# Altium schematic symbol library kmilo17pet-LT_PMIC_LT.SchLib: 2252 symbols (part 79 of 124)
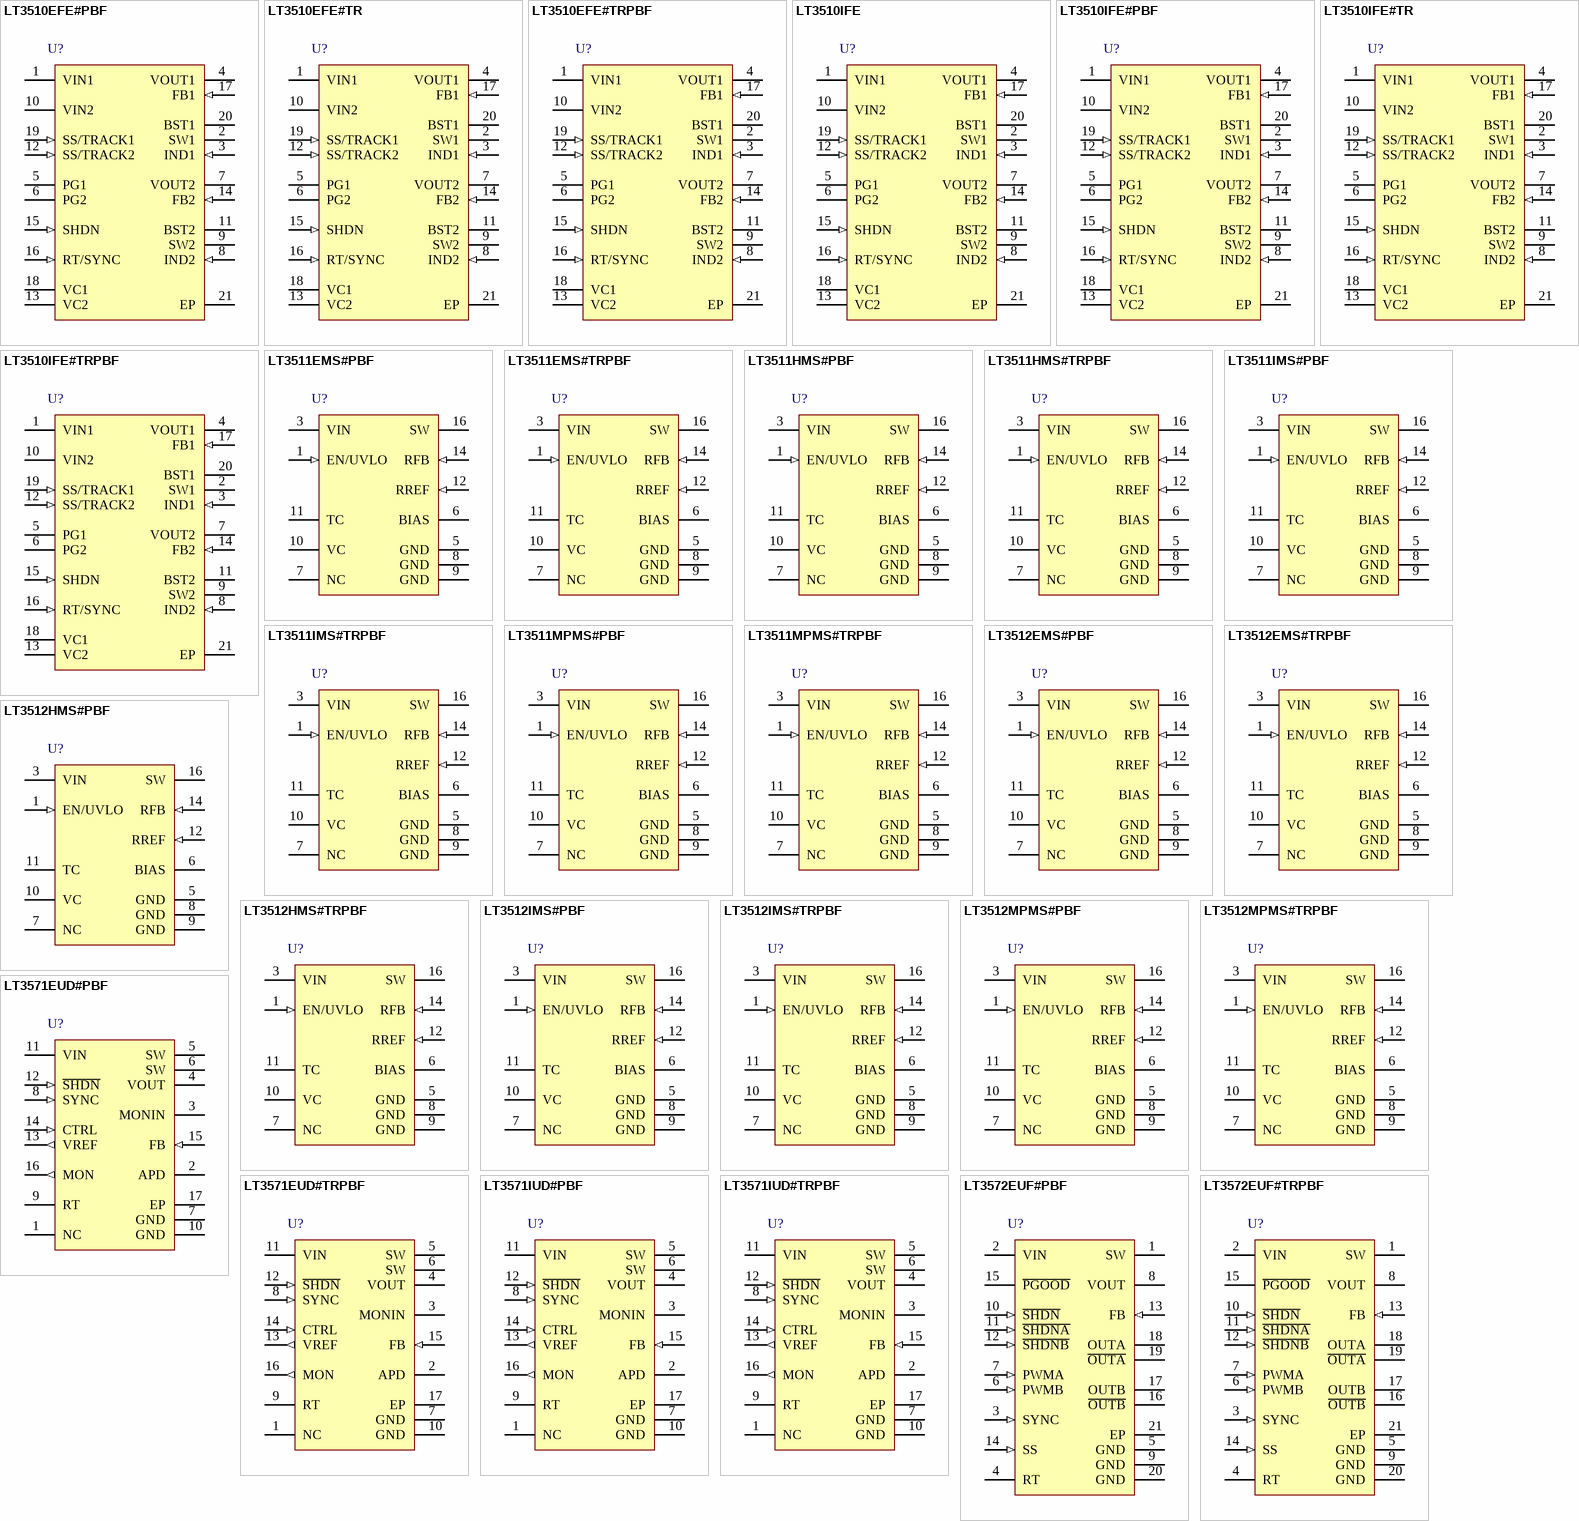
[diagram p149: symbols LT3510EFE#PBF to LT3572EUF#TRPBF]

## LT3511EMS#TRPBF
designator U?
Monolithic High Voltage Isolated Flyback Converter, 16-pin SOP (MS-16-4PR), -40 to 125 degC, Pb-Free, Tape and Reel; Manufacturer: Linear Technology; PartNumber: LT3511EMS#TRPBF; Number of Outputs: 1; PackageReference: MS-16; PackageDescription: 12-Pin Plastic MSOP, Body 4.039 x 3 mm, Pitch 0.5 mm; Supplier 1: Digi-Key; Supplier Part Number 1: LT3511EMS#TRPBF-ND; RoHS: TRUE
footprint LT-MS-16-4PR_N (SOP, 12-Leads, Body 4.1x3.1mm, Pitch 0.5mm, IPC Medium Density)
footprint LT-MS-16-4PR_L (SOP, 12-Leads, Body 4.1x3.1mm, Pitch 0.5mm, IPC High Density)
footprint LT-MS-16-4PR_M (SOP, 12-Leads, Body 4.1x3.1mm, Pitch 0.5mm, IPC Low Density)
pins: 1 EN/UVLO (in) "Enable/Undervoltage Lockout. The EN/ UVLO pin is used to start up the LT3512/LT3511. Pull the pin to 0V to shut down the LT3512. This pin has an accurate 1.21V threshold and can be used to program an undervoltage lockout (See Datasheet)", 3 VIN (power) "Input Supply Pin. This pin supplies current to the internal start-up circuitry, and serves as a reference voltage for the DCM comparator and feedback circuitry. Must be locally bypassed with a capacitor.", 5 GND (power) "Ground Pins. All three pins should be tied directly to the local ground plane.", 6 BIAS (power) "Bias Voltage. This pin supplies current to the switch driver and internal circuitry of the LT3512/LT3511. This pin may also be connected to VIN if a third winding is not used and if VIN < 20V. The part can operate down to 4.(See Datasheet)", 7 NC, 8 GND (power) "Ground Pins. All three pins should be tied directly to the local ground plane.", 9 GND (power) "Ground Pins. All three pins should be tied directly to the local ground plane.", 10 VC "Compensation Pin for Internal Error Amplifier. Connect a series RC from this pin to ground to compensate the switching regulator. An additional 100pF capacitor from this pin to ground helps eliminate noise.", 11 TC "Output Voltage Temperature Compensation. Connect a resistor to ground to produce a current proportional to absolute temperature to be sourced into the RREF node. ITC = 0.55V/RTC.", 12 RREF (in) "Input Pin for External Ground-Referred Reference Resistor. The resistor at this pin should be 10k. For nonisolated applications, a traditional resistor voltage divider from VOUT may be connected to this pin.", 14 RFB (in) "Input Pin for External Feedback Resistor. This pin is connected to the transformer primary (VSW). The ratio of this resistor to the RREF resistor, times the internal bandgap reference, determines the output voltage (plus the (See Datasheet)", 16 SW (power) "Switch Pin. Collector of the internal power switch. Minimize trace area at this pin to minimize EMI and voltage spikes."

## LT3511HMS#PBF
designator U?
Monolithic High Voltage Isolated Flyback Converter, 16-pin SOP (MS-16-4PR), -40 to 150 degC, Pb-Free; Manufacturer: Linear Technology; PartNumber: LT3511HMS#PBF; Number of Outputs: 1; PackageReference: MS-16; PackageDescription: 12-Pin Plastic MSOP, Body 4.039 x 3 mm, Pitch 0.5 mm; Supplier 1: Digi-Key; Supplier Part Number 1: LT3511HMS#PBF-ND; RoHS: TRUE
footprint LT-MS-16-4PR_N (SOP, 12-Leads, Body 4.1x3.1mm, Pitch 0.5mm, IPC Medium Density)
footprint LT-MS-16-4PR_L (SOP, 12-Leads, Body 4.1x3.1mm, Pitch 0.5mm, IPC High Density)
footprint LT-MS-16-4PR_M (SOP, 12-Leads, Body 4.1x3.1mm, Pitch 0.5mm, IPC Low Density)
pins: 1 EN/UVLO (in) "Enable/Undervoltage Lockout. The EN/ UVLO pin is used to start up the LT3512/LT3511. Pull the pin to 0V to shut down the LT3512. This pin has an accurate 1.21V threshold and can be used to program an undervoltage lockout (See Datasheet)", 3 VIN (power) "Input Supply Pin. This pin supplies current to the internal start-up circuitry, and serves as a reference voltage for the DCM comparator and feedback circuitry. Must be locally bypassed with a capacitor.", 5 GND (power) "Ground Pins. All three pins should be tied directly to the local ground plane.", 6 BIAS (power) "Bias Voltage. This pin supplies current to the switch driver and internal circuitry of the LT3512/LT3511. This pin may also be connected to VIN if a third winding is not used and if VIN < 20V. The part can operate down to 4.(See Datasheet)", 7 NC, 8 GND (power) "Ground Pins. All three pins should be tied directly to the local ground plane.", 9 GND (power) "Ground Pins. All three pins should be tied directly to the local ground plane.", 10 VC "Compensation Pin for Internal Error Amplifier. Connect a series RC from this pin to ground to compensate the switching regulator. An additional 100pF capacitor from this pin to ground helps eliminate noise.", 11 TC "Output Voltage Temperature Compensation. Connect a resistor to ground to produce a current proportional to absolute temperature to be sourced into the RREF node. ITC = 0.55V/RTC.", 12 RREF (in) "Input Pin for External Ground-Referred Reference Resistor. The resistor at this pin should be 10k. For nonisolated applications, a traditional resistor voltage divider from VOUT may be connected to this pin.", 14 RFB (in) "Input Pin for External Feedback Resistor. This pin is connected to the transformer primary (VSW). The ratio of this resistor to the RREF resistor, times the internal bandgap reference, determines the output voltage (plus the (See Datasheet)", 16 SW (power) "Switch Pin. Collector of the internal power switch. Minimize trace area at this pin to minimize EMI and voltage spikes."

## LT3511HMS#TRPBF
designator U?
Monolithic High Voltage Isolated Flyback Converter, 16-pin SOP (MS-16-4PR), -40 to 150 degC, Pb-Free, Tape and Reel; Manufacturer: Linear Technology; PartNumber: LT3511HMS#TRPBF; Number of Outputs: 1; PackageReference: MS-16; PackageDescription: 12-Pin Plastic MSOP, Body 4.039 x 3 mm, Pitch 0.5 mm; Supplier 1: Digi-Key; Supplier Part Number 1: LT3511HMS#TRPBF-ND; RoHS: TRUE
footprint LT-MS-16-4PR_N (SOP, 12-Leads, Body 4.1x3.1mm, Pitch 0.5mm, IPC Medium Density)
footprint LT-MS-16-4PR_L (SOP, 12-Leads, Body 4.1x3.1mm, Pitch 0.5mm, IPC High Density)
footprint LT-MS-16-4PR_M (SOP, 12-Leads, Body 4.1x3.1mm, Pitch 0.5mm, IPC Low Density)
pins: 1 EN/UVLO (in) "Enable/Undervoltage Lockout. The EN/ UVLO pin is used to start up the LT3512/LT3511. Pull the pin to 0V to shut down the LT3512. This pin has an accurate 1.21V threshold and can be used to program an undervoltage lockout (See Datasheet)", 3 VIN (power) "Input Supply Pin. This pin supplies current to the internal start-up circuitry, and serves as a reference voltage for the DCM comparator and feedback circuitry. Must be locally bypassed with a capacitor.", 5 GND (power) "Ground Pins. All three pins should be tied directly to the local ground plane.", 6 BIAS (power) "Bias Voltage. This pin supplies current to the switch driver and internal circuitry of the LT3512/LT3511. This pin may also be connected to VIN if a third winding is not used and if VIN < 20V. The part can operate down to 4.(See Datasheet)", 7 NC, 8 GND (power) "Ground Pins. All three pins should be tied directly to the local ground plane.", 9 GND (power) "Ground Pins. All three pins should be tied directly to the local ground plane.", 10 VC "Compensation Pin for Internal Error Amplifier. Connect a series RC from this pin to ground to compensate the switching regulator. An additional 100pF capacitor from this pin to ground helps eliminate noise.", 11 TC "Output Voltage Temperature Compensation. Connect a resistor to ground to produce a current proportional to absolute temperature to be sourced into the RREF node. ITC = 0.55V/RTC.", 12 RREF (in) "Input Pin for External Ground-Referred Reference Resistor. The resistor at this pin should be 10k. For nonisolated applications, a traditional resistor voltage divider from VOUT may be connected to this pin.", 14 RFB (in) "Input Pin for External Feedback Resistor. This pin is connected to the transformer primary (VSW). The ratio of this resistor to the RREF resistor, times the internal bandgap reference, determines the output voltage (plus the (See Datasheet)", 16 SW (power) "Switch Pin. Collector of the internal power switch. Minimize trace area at this pin to minimize EMI and voltage spikes."

## LT3511IMS#PBF
designator U?
Monolithic High Voltage Isolated Flyback Converter, 16-pin SOP (MS-16-4PR), -40 to 125 degC, Pb-Free; Manufacturer: Linear Technology; PartNumber: LT3511IMS#PBF; Number of Outputs: 1; PackageReference: MS-16; PackageDescription: 12-Pin Plastic MSOP, Body 4.039 x 3 mm, Pitch 0.5 mm; Supplier 1: Digi-Key; Supplier Part Number 1: LT3511IMS#PBF-ND; RoHS: TRUE
footprint LT-MS-16-4PR_N (SOP, 12-Leads, Body 4.1x3.1mm, Pitch 0.5mm, IPC Medium Density)
footprint LT-MS-16-4PR_L (SOP, 12-Leads, Body 4.1x3.1mm, Pitch 0.5mm, IPC High Density)
footprint LT-MS-16-4PR_M (SOP, 12-Leads, Body 4.1x3.1mm, Pitch 0.5mm, IPC Low Density)
pins: 1 EN/UVLO (in) "Enable/Undervoltage Lockout. The EN/ UVLO pin is used to start up the LT3512/LT3511. Pull the pin to 0V to shut down the LT3512. This pin has an accurate 1.21V threshold and can be used to program an undervoltage lockout (See Datasheet)", 3 VIN (power) "Input Supply Pin. This pin supplies current to the internal start-up circuitry, and serves as a reference voltage for the DCM comparator and feedback circuitry. Must be locally bypassed with a capacitor.", 5 GND (power) "Ground Pins. All three pins should be tied directly to the local ground plane.", 6 BIAS (power) "Bias Voltage. This pin supplies current to the switch driver and internal circuitry of the LT3512/LT3511. This pin may also be connected to VIN if a third winding is not used and if VIN < 20V. The part can operate down to 4.(See Datasheet)", 7 NC, 8 GND (power) "Ground Pins. All three pins should be tied directly to the local ground plane.", 9 GND (power) "Ground Pins. All three pins should be tied directly to the local ground plane.", 10 VC "Compensation Pin for Internal Error Amplifier. Connect a series RC from this pin to ground to compensate the switching regulator. An additional 100pF capacitor from this pin to ground helps eliminate noise.", 11 TC "Output Voltage Temperature Compensation. Connect a resistor to ground to produce a current proportional to absolute temperature to be sourced into the RREF node. ITC = 0.55V/RTC.", 12 RREF (in) "Input Pin for External Ground-Referred Reference Resistor. The resistor at this pin should be 10k. For nonisolated applications, a traditional resistor voltage divider from VOUT may be connected to this pin.", 14 RFB (in) "Input Pin for External Feedback Resistor. This pin is connected to the transformer primary (VSW). The ratio of this resistor to the RREF resistor, times the internal bandgap reference, determines the output voltage (plus the (See Datasheet)", 16 SW (power) "Switch Pin. Collector of the internal power switch. Minimize trace area at this pin to minimize EMI and voltage spikes."

## LT3511IMS#TRPBF
designator U?
Monolithic High Voltage Isolated Flyback Converter, 16-pin SOP (MS-16-4PR), -40 to 125 degC, Pb-Free, Tape and Reel; Manufacturer: Linear Technology; PartNumber: LT3511IMS#TRPBF; Number of Outputs: 1; PackageReference: MS-16; PackageDescription: 12-Pin Plastic MSOP, Body 4.039 x 3 mm, Pitch 0.5 mm; Supplier 1: Digi-Key; Supplier Part Number 1: LT3511IMS#TRPBF-ND; RoHS: TRUE
footprint LT-MS-16-4PR_N (SOP, 12-Leads, Body 4.1x3.1mm, Pitch 0.5mm, IPC Medium Density)
footprint LT-MS-16-4PR_L (SOP, 12-Leads, Body 4.1x3.1mm, Pitch 0.5mm, IPC High Density)
footprint LT-MS-16-4PR_M (SOP, 12-Leads, Body 4.1x3.1mm, Pitch 0.5mm, IPC Low Density)
pins: 1 EN/UVLO (in) "Enable/Undervoltage Lockout. The EN/ UVLO pin is used to start up the LT3512/LT3511. Pull the pin to 0V to shut down the LT3512. This pin has an accurate 1.21V threshold and can be used to program an undervoltage lockout (See Datasheet)", 3 VIN (power) "Input Supply Pin. This pin supplies current to the internal start-up circuitry, and serves as a reference voltage for the DCM comparator and feedback circuitry. Must be locally bypassed with a capacitor.", 5 GND (power) "Ground Pins. All three pins should be tied directly to the local ground plane.", 6 BIAS (power) "Bias Voltage. This pin supplies current to the switch driver and internal circuitry of the LT3512/LT3511. This pin may also be connected to VIN if a third winding is not used and if VIN < 20V. The part can operate down to 4.(See Datasheet)", 7 NC, 8 GND (power) "Ground Pins. All three pins should be tied directly to the local ground plane.", 9 GND (power) "Ground Pins. All three pins should be tied directly to the local ground plane.", 10 VC "Compensation Pin for Internal Error Amplifier. Connect a series RC from this pin to ground to compensate the switching regulator. An additional 100pF capacitor from this pin to ground helps eliminate noise.", 11 TC "Output Voltage Temperature Compensation. Connect a resistor to ground to produce a current proportional to absolute temperature to be sourced into the RREF node. ITC = 0.55V/RTC.", 12 RREF (in) "Input Pin for External Ground-Referred Reference Resistor. The resistor at this pin should be 10k. For nonisolated applications, a traditional resistor voltage divider from VOUT may be connected to this pin.", 14 RFB (in) "Input Pin for External Feedback Resistor. This pin is connected to the transformer primary (VSW). The ratio of this resistor to the RREF resistor, times the internal bandgap reference, determines the output voltage (plus the (See Datasheet)", 16 SW (power) "Switch Pin. Collector of the internal power switch. Minimize trace area at this pin to minimize EMI and voltage spikes."

## LT3511MPMS#PBF
designator U?
Monolithic High Voltage Isolated Flyback Converter, 16-pin SOP (MS-16-4PR), -55 to 150 degC, Pb-Free; Manufacturer: Linear Technology; PartNumber: LT3511MPMS#PBF; Number of Outputs: 1; PackageReference: MS-16; PackageDescription: 12-Pin Plastic MSOP, Body 4.039 x 3 mm, Pitch 0.5 mm; Supplier 1: Digi-Key; Supplier Part Number 1: LT3511MPMS#PBF-ND; RoHS: TRUE
footprint LT-MS-16-4PR_N (SOP, 12-Leads, Body 4.1x3.1mm, Pitch 0.5mm, IPC Medium Density)
footprint LT-MS-16-4PR_L (SOP, 12-Leads, Body 4.1x3.1mm, Pitch 0.5mm, IPC High Density)
footprint LT-MS-16-4PR_M (SOP, 12-Leads, Body 4.1x3.1mm, Pitch 0.5mm, IPC Low Density)
pins: 1 EN/UVLO (in) "Enable/Undervoltage Lockout. The EN/ UVLO pin is used to start up the LT3512/LT3511. Pull the pin to 0V to shut down the LT3512. This pin has an accurate 1.21V threshold and can be used to program an undervoltage lockout (See Datasheet)", 3 VIN (power) "Input Supply Pin. This pin supplies current to the internal start-up circuitry, and serves as a reference voltage for the DCM comparator and feedback circuitry. Must be locally bypassed with a capacitor.", 5 GND (power) "Ground Pins. All three pins should be tied directly to the local ground plane.", 6 BIAS (power) "Bias Voltage. This pin supplies current to the switch driver and internal circuitry of the LT3512/LT3511. This pin may also be connected to VIN if a third winding is not used and if VIN < 20V. The part can operate down to 4.(See Datasheet)", 7 NC, 8 GND (power) "Ground Pins. All three pins should be tied directly to the local ground plane.", 9 GND (power) "Ground Pins. All three pins should be tied directly to the local ground plane.", 10 VC "Compensation Pin for Internal Error Amplifier. Connect a series RC from this pin to ground to compensate the switching regulator. An additional 100pF capacitor from this pin to ground helps eliminate noise.", 11 TC "Output Voltage Temperature Compensation. Connect a resistor to ground to produce a current proportional to absolute temperature to be sourced into the RREF node. ITC = 0.55V/RTC.", 12 RREF (in) "Input Pin for External Ground-Referred Reference Resistor. The resistor at this pin should be 10k. For nonisolated applications, a traditional resistor voltage divider from VOUT may be connected to this pin.", 14 RFB (in) "Input Pin for External Feedback Resistor. This pin is connected to the transformer primary (VSW). The ratio of this resistor to the RREF resistor, times the internal bandgap reference, determines the output voltage (plus the (See Datasheet)", 16 SW (power) "Switch Pin. Collector of the internal power switch. Minimize trace area at this pin to minimize EMI and voltage spikes."

## LT3511MPMS#TRPBF
designator U?
Monolithic High Voltage Isolated Flyback Converter, 16-pin SOP (MS-16-4PR), -55 to 150 degC, Pb-Free, Tape and Reel; Manufacturer: Linear Technology; PartNumber: LT3511MPMS#TRPBF; Number of Outputs: 1; PackageReference: MS-16; PackageDescription: 12-Pin Plastic MSOP, Body 4.039 x 3 mm, Pitch 0.5 mm; Supplier 1: Digi-Key; Supplier Part Number 1: LT3511MPMS#TRPBF-ND; RoHS: TRUE
footprint LT-MS-16-4PR_N (SOP, 12-Leads, Body 4.1x3.1mm, Pitch 0.5mm, IPC Medium Density)
footprint LT-MS-16-4PR_L (SOP, 12-Leads, Body 4.1x3.1mm, Pitch 0.5mm, IPC High Density)
footprint LT-MS-16-4PR_M (SOP, 12-Leads, Body 4.1x3.1mm, Pitch 0.5mm, IPC Low Density)
pins: 1 EN/UVLO (in) "Enable/Undervoltage Lockout. The EN/ UVLO pin is used to start up the LT3512/LT3511. Pull the pin to 0V to shut down the LT3512. This pin has an accurate 1.21V threshold and can be used to program an undervoltage lockout (See Datasheet)", 3 VIN (power) "Input Supply Pin. This pin supplies current to the internal start-up circuitry, and serves as a reference voltage for the DCM comparator and feedback circuitry. Must be locally bypassed with a capacitor.", 5 GND (power) "Ground Pins. All three pins should be tied directly to the local ground plane.", 6 BIAS (power) "Bias Voltage. This pin supplies current to the switch driver and internal circuitry of the LT3512/LT3511. This pin may also be connected to VIN if a third winding is not used and if VIN < 20V. The part can operate down to 4.(See Datasheet)", 7 NC, 8 GND (power) "Ground Pins. All three pins should be tied directly to the local ground plane.", 9 GND (power) "Ground Pins. All three pins should be tied directly to the local ground plane.", 10 VC "Compensation Pin for Internal Error Amplifier. Connect a series RC from this pin to ground to compensate the switching regulator. An additional 100pF capacitor from this pin to ground helps eliminate noise.", 11 TC "Output Voltage Temperature Compensation. Connect a resistor to ground to produce a current proportional to absolute temperature to be sourced into the RREF node. ITC = 0.55V/RTC.", 12 RREF (in) "Input Pin for External Ground-Referred Reference Resistor. The resistor at this pin should be 10k. For nonisolated applications, a traditional resistor voltage divider from VOUT may be connected to this pin.", 14 RFB (in) "Input Pin for External Feedback Resistor. This pin is connected to the transformer primary (VSW). The ratio of this resistor to the RREF resistor, times the internal bandgap reference, determines the output voltage (plus the (See Datasheet)", 16 SW (power) "Switch Pin. Collector of the internal power switch. Minimize trace area at this pin to minimize EMI and voltage spikes."

## LT3512EMS#PBF
designator U?
Monolithic High Voltage Isolated Flyback Converter, 16-pin SOP (MS-16-4PR), -40 to 125 degC, Pb-Free; Manufacturer: Linear Technology; PartNumber: LT3512EMS#PBF; Number of Outputs: 1; PackageReference: MS-16; PackageDescription: 12-Pin Plastic MSOP, Body 4.039 x 3 mm, Pitch 0.5 mm; Supplier 1: Digi-Key; Supplier Part Number 1: LT3512EMS#PBF-ND; RoHS: TRUE
footprint LT-MS-16-4PR_N (SOP, 12-Leads, Body 4.1x3.1mm, Pitch 0.5mm, IPC Medium Density)
footprint LT-MS-16-4PR_L (SOP, 12-Leads, Body 4.1x3.1mm, Pitch 0.5mm, IPC High Density)
footprint LT-MS-16-4PR_M (SOP, 12-Leads, Body 4.1x3.1mm, Pitch 0.5mm, IPC Low Density)
pins: 1 EN/UVLO (in) "Enable/Undervoltage Lockout. The EN/ UVLO pin is used to start up the LT3512/LT3511. Pull the pin to 0V to shut down the LT3512. This pin has an accurate 1.21V threshold and can be used to program an undervoltage lockout (See Datasheet)", 3 VIN (power) "Input Supply Pin. This pin supplies current to the internal start-up circuitry, and serves as a reference voltage for the DCM comparator and feedback circuitry. Must be locally bypassed with a capacitor.", 5 GND (power) "Ground Pins. All three pins should be tied directly to the local ground plane.", 6 BIAS (power) "Bias Voltage. This pin supplies current to the switch driver and internal circuitry of the LT3512/LT3511. This pin may also be connected to VIN if a third winding is not used and if VIN < 20V. The part can operate down to 4.(See Datasheet)", 7 NC, 8 GND (power) "Ground Pins. All three pins should be tied directly to the local ground plane.", 9 GND (power) "Ground Pins. All three pins should be tied directly to the local ground plane.", 10 VC "Compensation Pin for Internal Error Amplifier. Connect a series RC from this pin to ground to compensate the switching regulator. An additional 100pF capacitor from this pin to ground helps eliminate noise.", 11 TC "Output Voltage Temperature Compensation. Connect a resistor to ground to produce a current proportional to absolute temperature to be sourced into the RREF node. ITC = 0.55V/RTC.", 12 RREF (in) "Input Pin for External Ground-Referred Reference Resistor. The resistor at this pin should be 10k. For nonisolated applications, a traditional resistor voltage divider from VOUT may be connected to this pin.", 14 RFB (in) "Input Pin for External Feedback Resistor. This pin is connected to the transformer primary (VSW). The ratio of this resistor to the RREF resistor, times the internal bandgap reference, determines the output voltage (plus the (See Datasheet)", 16 SW (power) "Switch Pin. Collector of the internal power switch. Minimize trace area at this pin to minimize EMI and voltage spikes."

## LT3512EMS#TRPBF
designator U?
Monolithic High Voltage Isolated Flyback Converter, 16-pin SOP (MS-16-4PR), -40 to 125 degC, Pb-Free, Tape and Reel; Manufacturer: Linear Technology; PartNumber: LT3512EMS#TRPBF; Number of Outputs: 1; PackageReference: MS-16; PackageDescription: 12-Pin Plastic MSOP, Body 4.039 x 3 mm, Pitch 0.5 mm; Supplier 1: Digi-Key; Supplier Part Number 1: LT3512EMS#TRPBF-ND; RoHS: TRUE
footprint LT-MS-16-4PR_N (SOP, 12-Leads, Body 4.1x3.1mm, Pitch 0.5mm, IPC Medium Density)
footprint LT-MS-16-4PR_L (SOP, 12-Leads, Body 4.1x3.1mm, Pitch 0.5mm, IPC High Density)
footprint LT-MS-16-4PR_M (SOP, 12-Leads, Body 4.1x3.1mm, Pitch 0.5mm, IPC Low Density)
pins: 1 EN/UVLO (in) "Enable/Undervoltage Lockout. The EN/ UVLO pin is used to start up the LT3512/LT3511. Pull the pin to 0V to shut down the LT3512. This pin has an accurate 1.21V threshold and can be used to program an undervoltage lockout (See Datasheet)", 3 VIN (power) "Input Supply Pin. This pin supplies current to the internal start-up circuitry, and serves as a reference voltage for the DCM comparator and feedback circuitry. Must be locally bypassed with a capacitor.", 5 GND (power) "Ground Pins. All three pins should be tied directly to the local ground plane.", 6 BIAS (power) "Bias Voltage. This pin supplies current to the switch driver and internal circuitry of the LT3512/LT3511. This pin may also be connected to VIN if a third winding is not used and if VIN < 20V. The part can operate down to 4.(See Datasheet)", 7 NC, 8 GND (power) "Ground Pins. All three pins should be tied directly to the local ground plane.", 9 GND (power) "Ground Pins. All three pins should be tied directly to the local ground plane.", 10 VC "Compensation Pin for Internal Error Amplifier. Connect a series RC from this pin to ground to compensate the switching regulator. An additional 100pF capacitor from this pin to ground helps eliminate noise.", 11 TC "Output Voltage Temperature Compensation. Connect a resistor to ground to produce a current proportional to absolute temperature to be sourced into the RREF node. ITC = 0.55V/RTC.", 12 RREF (in) "Input Pin for External Ground-Referred Reference Resistor. The resistor at this pin should be 10k. For nonisolated applications, a traditional resistor voltage divider from VOUT may be connected to this pin.", 14 RFB (in) "Input Pin for External Feedback Resistor. This pin is connected to the transformer primary (VSW). The ratio of this resistor to the RREF resistor, times the internal bandgap reference, determines the output voltage (plus the (See Datasheet)", 16 SW (power) "Switch Pin. Collector of the internal power switch. Minimize trace area at this pin to minimize EMI and voltage spikes."

## LT3512HMS#PBF
designator U?
Monolithic High Voltage Isolated Flyback Converter, 16-pin SOP (MS-16-4PR), -40 to 150 degC, Pb-Free; Manufacturer: Linear Technology; PartNumber: LT3512HMS#PBF; Number of Outputs: 1; PackageReference: MS-16; PackageDescription: 12-Pin Plastic MSOP, Body 4.039 x 3 mm, Pitch 0.5 mm; Supplier 1: Digi-Key; Supplier Part Number 1: LT3512HMS#PBF-ND; RoHS: TRUE
footprint LT-MS-16-4PR_N (SOP, 12-Leads, Body 4.1x3.1mm, Pitch 0.5mm, IPC Medium Density)
footprint LT-MS-16-4PR_L (SOP, 12-Leads, Body 4.1x3.1mm, Pitch 0.5mm, IPC High Density)
footprint LT-MS-16-4PR_M (SOP, 12-Leads, Body 4.1x3.1mm, Pitch 0.5mm, IPC Low Density)
pins: 1 EN/UVLO (in) "Enable/Undervoltage Lockout. The EN/ UVLO pin is used to start up the LT3512/LT3511. Pull the pin to 0V to shut down the LT3512. This pin has an accurate 1.21V threshold and can be used to program an undervoltage lockout (See Datasheet)", 3 VIN (power) "Input Supply Pin. This pin supplies current to the internal start-up circuitry, and serves as a reference voltage for the DCM comparator and feedback circuitry. Must be locally bypassed with a capacitor.", 5 GND (power) "Ground Pins. All three pins should be tied directly to the local ground plane.", 6 BIAS (power) "Bias Voltage. This pin supplies current to the switch driver and internal circuitry of the LT3512/LT3511. This pin may also be connected to VIN if a third winding is not used and if VIN < 20V. The part can operate down to 4.(See Datasheet)", 7 NC, 8 GND (power) "Ground Pins. All three pins should be tied directly to the local ground plane.", 9 GND (power) "Ground Pins. All three pins should be tied directly to the local ground plane.", 10 VC "Compensation Pin for Internal Error Amplifier. Connect a series RC from this pin to ground to compensate the switching regulator. An additional 100pF capacitor from this pin to ground helps eliminate noise.", 11 TC "Output Voltage Temperature Compensation. Connect a resistor to ground to produce a current proportional to absolute temperature to be sourced into the RREF node. ITC = 0.55V/RTC.", 12 RREF (in) "Input Pin for External Ground-Referred Reference Resistor. The resistor at this pin should be 10k. For nonisolated applications, a traditional resistor voltage divider from VOUT may be connected to this pin.", 14 RFB (in) "Input Pin for External Feedback Resistor. This pin is connected to the transformer primary (VSW). The ratio of this resistor to the RREF resistor, times the internal bandgap reference, determines the output voltage (plus the (See Datasheet)", 16 SW (power) "Switch Pin. Collector of the internal power switch. Minimize trace area at this pin to minimize EMI and voltage spikes."

## LT3512HMS#TRPBF
designator U?
Monolithic High Voltage Isolated Flyback Converter, 16-pin SOP (MS-16-4PR), -40 to 150 degC, Pb-Free, Tape and Reel; Manufacturer: Linear Technology; PartNumber: LT3512HMS#TRPBF; Number of Outputs: 1; PackageReference: MS-16; PackageDescription: 12-Pin Plastic MSOP, Body 4.039 x 3 mm, Pitch 0.5 mm; Supplier 1: Digi-Key; Supplier Part Number 1: LT3512HMS#TRPBF-ND; RoHS: TRUE
footprint LT-MS-16-4PR_N (SOP, 12-Leads, Body 4.1x3.1mm, Pitch 0.5mm, IPC Medium Density)
footprint LT-MS-16-4PR_L (SOP, 12-Leads, Body 4.1x3.1mm, Pitch 0.5mm, IPC High Density)
footprint LT-MS-16-4PR_M (SOP, 12-Leads, Body 4.1x3.1mm, Pitch 0.5mm, IPC Low Density)
pins: 1 EN/UVLO (in) "Enable/Undervoltage Lockout. The EN/ UVLO pin is used to start up the LT3512/LT3511. Pull the pin to 0V to shut down the LT3512. This pin has an accurate 1.21V threshold and can be used to program an undervoltage lockout (See Datasheet)", 3 VIN (power) "Input Supply Pin. This pin supplies current to the internal start-up circuitry, and serves as a reference voltage for the DCM comparator and feedback circuitry. Must be locally bypassed with a capacitor.", 5 GND (power) "Ground Pins. All three pins should be tied directly to the local ground plane.", 6 BIAS (power) "Bias Voltage. This pin supplies current to the switch driver and internal circuitry of the LT3512/LT3511. This pin may also be connected to VIN if a third winding is not used and if VIN < 20V. The part can operate down to 4.(See Datasheet)", 7 NC, 8 GND (power) "Ground Pins. All three pins should be tied directly to the local ground plane.", 9 GND (power) "Ground Pins. All three pins should be tied directly to the local ground plane.", 10 VC "Compensation Pin for Internal Error Amplifier. Connect a series RC from this pin to ground to compensate the switching regulator. An additional 100pF capacitor from this pin to ground helps eliminate noise.", 11 TC "Output Voltage Temperature Compensation. Connect a resistor to ground to produce a current proportional to absolute temperature to be sourced into the RREF node. ITC = 0.55V/RTC.", 12 RREF (in) "Input Pin for External Ground-Referred Reference Resistor. The resistor at this pin should be 10k. For nonisolated applications, a traditional resistor voltage divider from VOUT may be connected to this pin.", 14 RFB (in) "Input Pin for External Feedback Resistor. This pin is connected to the transformer primary (VSW). The ratio of this resistor to the RREF resistor, times the internal bandgap reference, determines the output voltage (plus the (See Datasheet)", 16 SW (power) "Switch Pin. Collector of the internal power switch. Minimize trace area at this pin to minimize EMI and voltage spikes."

## LT3512IMS#PBF
designator U?
Monolithic High Voltage Isolated Flyback Converter, 16-pin SOP (MS-16-4PR), -40 to 125 degC, Pb-Free; Manufacturer: Linear Technology; PartNumber: LT3512IMS#PBF; Number of Outputs: 1; PackageReference: MS-16; PackageDescription: 12-Pin Plastic MSOP, Body 4.039 x 3 mm, Pitch 0.5 mm; Supplier 1: Digi-Key; Supplier Part Number 1: LT3512IMS#PBF-ND; RoHS: TRUE
footprint LT-MS-16-4PR_N (SOP, 12-Leads, Body 4.1x3.1mm, Pitch 0.5mm, IPC Medium Density)
footprint LT-MS-16-4PR_L (SOP, 12-Leads, Body 4.1x3.1mm, Pitch 0.5mm, IPC High Density)
footprint LT-MS-16-4PR_M (SOP, 12-Leads, Body 4.1x3.1mm, Pitch 0.5mm, IPC Low Density)
pins: 1 EN/UVLO (in) "Enable/Undervoltage Lockout. The EN/ UVLO pin is used to start up the LT3512/LT3511. Pull the pin to 0V to shut down the LT3512. This pin has an accurate 1.21V threshold and can be used to program an undervoltage lockout (See Datasheet)", 3 VIN (power) "Input Supply Pin. This pin supplies current to the internal start-up circuitry, and serves as a reference voltage for the DCM comparator and feedback circuitry. Must be locally bypassed with a capacitor.", 5 GND (power) "Ground Pins. All three pins should be tied directly to the local ground plane.", 6 BIAS (power) "Bias Voltage. This pin supplies current to the switch driver and internal circuitry of the LT3512/LT3511. This pin may also be connected to VIN if a third winding is not used and if VIN < 20V. The part can operate down to 4.(See Datasheet)", 7 NC, 8 GND (power) "Ground Pins. All three pins should be tied directly to the local ground plane.", 9 GND (power) "Ground Pins. All three pins should be tied directly to the local ground plane.", 10 VC "Compensation Pin for Internal Error Amplifier. Connect a series RC from this pin to ground to compensate the switching regulator. An additional 100pF capacitor from this pin to ground helps eliminate noise.", 11 TC "Output Voltage Temperature Compensation. Connect a resistor to ground to produce a current proportional to absolute temperature to be sourced into the RREF node. ITC = 0.55V/RTC.", 12 RREF (in) "Input Pin for External Ground-Referred Reference Resistor. The resistor at this pin should be 10k. For nonisolated applications, a traditional resistor voltage divider from VOUT may be connected to this pin.", 14 RFB (in) "Input Pin for External Feedback Resistor. This pin is connected to the transformer primary (VSW). The ratio of this resistor to the RREF resistor, times the internal bandgap reference, determines the output voltage (plus the (See Datasheet)", 16 SW (power) "Switch Pin. Collector of the internal power switch. Minimize trace area at this pin to minimize EMI and voltage spikes."

## LT3512IMS#TRPBF
designator U?
Monolithic High Voltage Isolated Flyback Converter, 16-pin SOP (MS-16-4PR), -40 to 125 degC, Pb-Free, Tape and Reel; Manufacturer: Linear Technology; PartNumber: LT3512IMS#TRPBF; Number of Outputs: 1; PackageReference: MS-16; PackageDescription: 12-Pin Plastic MSOP, Body 4.039 x 3 mm, Pitch 0.5 mm; Supplier 1: Digi-Key; Supplier Part Number 1: LT3512IMS#TRPBF-ND; RoHS: TRUE
footprint LT-MS-16-4PR_N (SOP, 12-Leads, Body 4.1x3.1mm, Pitch 0.5mm, IPC Medium Density)
footprint LT-MS-16-4PR_L (SOP, 12-Leads, Body 4.1x3.1mm, Pitch 0.5mm, IPC High Density)
footprint LT-MS-16-4PR_M (SOP, 12-Leads, Body 4.1x3.1mm, Pitch 0.5mm, IPC Low Density)
pins: 1 EN/UVLO (in) "Enable/Undervoltage Lockout. The EN/ UVLO pin is used to start up the LT3512/LT3511. Pull the pin to 0V to shut down the LT3512. This pin has an accurate 1.21V threshold and can be used to program an undervoltage lockout (See Datasheet)", 3 VIN (power) "Input Supply Pin. This pin supplies current to the internal start-up circuitry, and serves as a reference voltage for the DCM comparator and feedback circuitry. Must be locally bypassed with a capacitor.", 5 GND (power) "Ground Pins. All three pins should be tied directly to the local ground plane.", 6 BIAS (power) "Bias Voltage. This pin supplies current to the switch driver and internal circuitry of the LT3512/LT3511. This pin may also be connected to VIN if a third winding is not used and if VIN < 20V. The part can operate down to 4.(See Datasheet)", 7 NC, 8 GND (power) "Ground Pins. All three pins should be tied directly to the local ground plane.", 9 GND (power) "Ground Pins. All three pins should be tied directly to the local ground plane.", 10 VC "Compensation Pin for Internal Error Amplifier. Connect a series RC from this pin to ground to compensate the switching regulator. An additional 100pF capacitor from this pin to ground helps eliminate noise.", 11 TC "Output Voltage Temperature Compensation. Connect a resistor to ground to produce a current proportional to absolute temperature to be sourced into the RREF node. ITC = 0.55V/RTC.", 12 RREF (in) "Input Pin for External Ground-Referred Reference Resistor. The resistor at this pin should be 10k. For nonisolated applications, a traditional resistor voltage divider from VOUT may be connected to this pin.", 14 RFB (in) "Input Pin for External Feedback Resistor. This pin is connected to the transformer primary (VSW). The ratio of this resistor to the RREF resistor, times the internal bandgap reference, determines the output voltage (plus the (See Datasheet)", 16 SW (power) "Switch Pin. Collector of the internal power switch. Minimize trace area at this pin to minimize EMI and voltage spikes."

## LT3512MPMS#PBF
designator U?
Monolithic High Voltage Isolated Flyback Converter, 16-pin SOP (MS-16-4PR), -55 to 150 degC, Pb-Free; Manufacturer: Linear Technology; PartNumber: LT3512MPMS#PBF; Number of Outputs: 1; PackageReference: MS-16; PackageDescription: 12-Pin Plastic MSOP, Body 4.039 x 3 mm, Pitch 0.5 mm; Supplier 1: Digi-Key; Supplier Part Number 1: LT3512MPMS#PBF-ND; RoHS: TRUE
footprint LT-MS-16-4PR_N (SOP, 12-Leads, Body 4.1x3.1mm, Pitch 0.5mm, IPC Medium Density)
footprint LT-MS-16-4PR_L (SOP, 12-Leads, Body 4.1x3.1mm, Pitch 0.5mm, IPC High Density)
footprint LT-MS-16-4PR_M (SOP, 12-Leads, Body 4.1x3.1mm, Pitch 0.5mm, IPC Low Density)
pins: 1 EN/UVLO (in) "Enable/Undervoltage Lockout. The EN/ UVLO pin is used to start up the LT3512/LT3511. Pull the pin to 0V to shut down the LT3512. This pin has an accurate 1.21V threshold and can be used to program an undervoltage lockout (See Datasheet)", 3 VIN (power) "Input Supply Pin. This pin supplies current to the internal start-up circuitry, and serves as a reference voltage for the DCM comparator and feedback circuitry. Must be locally bypassed with a capacitor.", 5 GND (power) "Ground Pins. All three pins should be tied directly to the local ground plane.", 6 BIAS (power) "Bias Voltage. This pin supplies current to the switch driver and internal circuitry of the LT3512/LT3511. This pin may also be connected to VIN if a third winding is not used and if VIN < 20V. The part can operate down to 4.(See Datasheet)", 7 NC, 8 GND (power) "Ground Pins. All three pins should be tied directly to the local ground plane.", 9 GND (power) "Ground Pins. All three pins should be tied directly to the local ground plane.", 10 VC "Compensation Pin for Internal Error Amplifier. Connect a series RC from this pin to ground to compensate the switching regulator. An additional 100pF capacitor from this pin to ground helps eliminate noise.", 11 TC "Output Voltage Temperature Compensation. Connect a resistor to ground to produce a current proportional to absolute temperature to be sourced into the RREF node. ITC = 0.55V/RTC.", 12 RREF (in) "Input Pin for External Ground-Referred Reference Resistor. The resistor at this pin should be 10k. For nonisolated applications, a traditional resistor voltage divider from VOUT may be connected to this pin.", 14 RFB (in) "Input Pin for External Feedback Resistor. This pin is connected to the transformer primary (VSW). The ratio of this resistor to the RREF resistor, times the internal bandgap reference, determines the output voltage (plus the (See Datasheet)", 16 SW (power) "Switch Pin. Collector of the internal power switch. Minimize trace area at this pin to minimize EMI and voltage spikes."

## LT3512MPMS#TRPBF
designator U?
Monolithic High Voltage Isolated Flyback Converter, 16-pin SOP (MS-16-4PR), -55 to 150 degC, Pb-Free, Tape and Reel; Manufacturer: Linear Technology; PartNumber: LT3512MPMS#TRPBF; Number of Outputs: 1; PackageReference: MS-16; PackageDescription: 12-Pin Plastic MSOP, Body 4.039 x 3 mm, Pitch 0.5 mm; Supplier 1: Digi-Key; Supplier Part Number 1: LT3512MPMS#TRPBF-ND; RoHS: TRUE
footprint LT-MS-16-4PR_N (SOP, 12-Leads, Body 4.1x3.1mm, Pitch 0.5mm, IPC Medium Density)
footprint LT-MS-16-4PR_L (SOP, 12-Leads, Body 4.1x3.1mm, Pitch 0.5mm, IPC High Density)
footprint LT-MS-16-4PR_M (SOP, 12-Leads, Body 4.1x3.1mm, Pitch 0.5mm, IPC Low Density)
pins: 1 EN/UVLO (in) "Enable/Undervoltage Lockout. The EN/ UVLO pin is used to start up the LT3512/LT3511. Pull the pin to 0V to shut down the LT3512. This pin has an accurate 1.21V threshold and can be used to program an undervoltage lockout (See Datasheet)", 3 VIN (power) "Input Supply Pin. This pin supplies current to the internal start-up circuitry, and serves as a reference voltage for the DCM comparator and feedback circuitry. Must be locally bypassed with a capacitor.", 5 GND (power) "Ground Pins. All three pins should be tied directly to the local ground plane.", 6 BIAS (power) "Bias Voltage. This pin supplies current to the switch driver and internal circuitry of the LT3512/LT3511. This pin may also be connected to VIN if a third winding is not used and if VIN < 20V. The part can operate down to 4.(See Datasheet)", 7 NC, 8 GND (power) "Ground Pins. All three pins should be tied directly to the local ground plane.", 9 GND (power) "Ground Pins. All three pins should be tied directly to the local ground plane.", 10 VC "Compensation Pin for Internal Error Amplifier. Connect a series RC from this pin to ground to compensate the switching regulator. An additional 100pF capacitor from this pin to ground helps eliminate noise.", 11 TC "Output Voltage Temperature Compensation. Connect a resistor to ground to produce a current proportional to absolute temperature to be sourced into the RREF node. ITC = 0.55V/RTC.", 12 RREF (in) "Input Pin for External Ground-Referred Reference Resistor. The resistor at this pin should be 10k. For nonisolated applications, a traditional resistor voltage divider from VOUT may be connected to this pin.", 14 RFB (in) "Input Pin for External Feedback Resistor. This pin is connected to the transformer primary (VSW). The ratio of this resistor to the RREF resistor, times the internal bandgap reference, determines the output voltage (plus the (See Datasheet)", 16 SW (power) "Switch Pin. Collector of the internal power switch. Minimize trace area at this pin to minimize EMI and voltage spikes."

## LT3571EUD#PBF
designator U?
75 V DC/DC Converter for APD Bias, 16-pin QFN (UD-16), -40 to 125 degC, Pb-Free; Manufacturer: Linear Technology; PartNumber: LT3571EUD#PBF; Number of Outputs: 1; PackageReference: UD-16; PackageDescription: 16-Pin Plastic QFN, Body 3 x 3 mm, Pitch 0.5 mm; Supplier 1: Digi-Key; Supplier Part Number 1: LT3571EUD#PBF-ND; RoHS: TRUE
footprint LT-UD-16_N (QFN, 16-Leads, Body 3x3mm, Pitch 0.5mm, Thermal Pad 1.45x1.45mm, IPC Medium Density)
footprint LT-UD-16_L (QFN, 16-Leads, Body 3x3mm, Pitch 0.5mm, Thermal Pad 1.45x1.45mm, IPC High Density)
footprint LT-UD-16_M (QFN, 16-Leads, Body 3x3mm, Pitch 0.5mm, Thermal Pad 1.45x1.45mm, IPC Low Density)
pins: 1 NC "No Connect", 2 APD "APD Cathode Pin. Connect APD cathode to this pin.", 3 MONIN (power) "Current Monitor Power Supply Pin. An external lowpass filter can be included here to further reduce supply voltage ripple. This pin also serves as the inverting input of the current sense amplifier. Put a sense resistor (See Datasheet)", 4 VOUT (power) "Boost Output Pin. Put a capacitor between this pin and GND plane. Minimize the length of the trace to the capacitor. Also serves as the noninverting input of the current sense amplifier.", 5 SW "Switch Pin. Minimize the trace length on this pin to reduce EMI.", 6 SW "Switch Pin. Minimize the trace length on this pin to reduce EMI.", 7 GND (power) "Ground. Pins connected internally. For best performance, connect both pins to board ground.", 8 SYNC (in) "Frequency Synchronization Pin. Connect an external clock signal here. RT resistor should be chosen to program a switching frequency 20% slower than the SYNC pulse frequency. Synchronization (switch turn-on) occurs a fixed (See Datasheet)", 9 RT "Switching Frequency Pin. Set switching frequency using a resistor to GND (see Typical Performance Characteristics for values). For SYNC function, choose the resistor to program a frequency 20% slower than the SYNC pulse (See Datasheet)", 10 GND (power) "Ground. Pins connected internally. For best performance, connect both pins to board ground.", 11 VIN (power) "Input Supply Pin. This pin must be locally bypassed.", 12 ~{SHDN} (in) "Shutdown Pin. Tie to 1.5V or higher to enable device; 0.4V or less to disable device. Also functions as soft-start. Use RC filter as shown in Figure 1.", 13 VREF (out) "Reference Output Pin. This pin can supply up to 100uA. Do not over drive this pin. Bypass with a 10nF or larger capacitor.", 14 CTRL (in) "Internal Reference Override Pin. The CTRL pin allows the FB voltage to be externally adjusted between 0V and 1V to adjust the output voltage. Tie this pin higher than 1.2V to use the internal reference of 1V.", 15 FB (in) "Feedback Pin. Connect to output resistor divider tap.", 16 MON (out) "Current Monitor Output Pin. Sources a current equal to 20% of the APD current and converts to a reference voltage through an external resistor", 17 EP (power) "Ground. The Exposed Pad must be soldered to the PCB."

## LT3571EUD#TRPBF
designator U?
75 V DC/DC Converter for APD Bias, 16-pin QFN (UD-16), -40 to 125 degC, Pb-Free, Tape and Reel; Manufacturer: Linear Technology; PartNumber: LT3571EUD#TRPBF; Number of Outputs: 1; PackageReference: UD-16; PackageDescription: 16-Pin Plastic QFN, Body 3 x 3 mm, Pitch 0.5 mm; Supplier 1: Digi-Key; Supplier Part Number 1: LT3571EUD#TRPBF-ND; RoHS: TRUE
footprint LT-UD-16_N (QFN, 16-Leads, Body 3x3mm, Pitch 0.5mm, Thermal Pad 1.45x1.45mm, IPC Medium Density)
footprint LT-UD-16_L (QFN, 16-Leads, Body 3x3mm, Pitch 0.5mm, Thermal Pad 1.45x1.45mm, IPC High Density)
footprint LT-UD-16_M (QFN, 16-Leads, Body 3x3mm, Pitch 0.5mm, Thermal Pad 1.45x1.45mm, IPC Low Density)
pins: 1 NC "No Connect", 2 APD "APD Cathode Pin. Connect APD cathode to this pin.", 3 MONIN (power) "Current Monitor Power Supply Pin. An external lowpass filter can be included here to further reduce supply voltage ripple. This pin also serves as the inverting input of the current sense amplifier. Put a sense resistor (See Datasheet)", 4 VOUT (power) "Boost Output Pin. Put a capacitor between this pin and GND plane. Minimize the length of the trace to the capacitor. Also serves as the noninverting input of the current sense amplifier.", 5 SW "Switch Pin. Minimize the trace length on this pin to reduce EMI.", 6 SW "Switch Pin. Minimize the trace length on this pin to reduce EMI.", 7 GND (power) "Ground. Pins connected internally. For best performance, connect both pins to board ground.", 8 SYNC (in) "Frequency Synchronization Pin. Connect an external clock signal here. RT resistor should be chosen to program a switching frequency 20% slower than the SYNC pulse frequency. Synchronization (switch turn-on) occurs a fixed (See Datasheet)", 9 RT "Switching Frequency Pin. Set switching frequency using a resistor to GND (see Typical Performance Characteristics for values). For SYNC function, choose the resistor to program a frequency 20% slower than the SYNC pulse (See Datasheet)", 10 GND (power) "Ground. Pins connected internally. For best performance, connect both pins to board ground.", 11 VIN (power) "Input Supply Pin. This pin must be locally bypassed.", 12 ~{SHDN} (in) "Shutdown Pin. Tie to 1.5V or higher to enable device; 0.4V or less to disable device. Also functions as soft-start. Use RC filter as shown in Figure 1.", 13 VREF (out) "Reference Output Pin. This pin can supply up to 100uA. Do not over drive this pin. Bypass with a 10nF or larger capacitor.", 14 CTRL (in) "Internal Reference Override Pin. The CTRL pin allows the FB voltage to be externally adjusted between 0V and 1V to adjust the output voltage. Tie this pin higher than 1.2V to use the internal reference of 1V.", 15 FB (in) "Feedback Pin. Connect to output resistor divider tap.", 16 MON (out) "Current Monitor Output Pin. Sources a current equal to 20% of the APD current and converts to a reference voltage through an external resistor", 17 EP (power) "Ground. The Exposed Pad must be soldered to the PCB."

## LT3571IUD#PBF
designator U?
75 V DC/DC Converter for APD Bias, 16-pin QFN (UD-16), -40 to 125 degC, Pb-Free; Manufacturer: Linear Technology; PartNumber: LT3571IUD#PBF; Number of Outputs: 1; PackageReference: UD-16; PackageDescription: 16-Pin Plastic QFN, Body 3 x 3 mm, Pitch 0.5 mm; Supplier 1: Digi-Key; Supplier Part Number 1: LT3571IUD#PBF-ND; RoHS: TRUE
footprint LT-UD-16_N (QFN, 16-Leads, Body 3x3mm, Pitch 0.5mm, Thermal Pad 1.45x1.45mm, IPC Medium Density)
footprint LT-UD-16_L (QFN, 16-Leads, Body 3x3mm, Pitch 0.5mm, Thermal Pad 1.45x1.45mm, IPC High Density)
footprint LT-UD-16_M (QFN, 16-Leads, Body 3x3mm, Pitch 0.5mm, Thermal Pad 1.45x1.45mm, IPC Low Density)
pins: 1 NC "No Connect", 2 APD "APD Cathode Pin. Connect APD cathode to this pin.", 3 MONIN (power) "Current Monitor Power Supply Pin. An external lowpass filter can be included here to further reduce supply voltage ripple. This pin also serves as the inverting input of the current sense amplifier. Put a sense resistor (See Datasheet)", 4 VOUT (power) "Boost Output Pin. Put a capacitor between this pin and GND plane. Minimize the length of the trace to the capacitor. Also serves as the noninverting input of the current sense amplifier.", 5 SW "Switch Pin. Minimize the trace length on this pin to reduce EMI.", 6 SW "Switch Pin. Minimize the trace length on this pin to reduce EMI.", 7 GND (power) "Ground. Pins connected internally. For best performance, connect both pins to board ground.", 8 SYNC (in) "Frequency Synchronization Pin. Connect an external clock signal here. RT resistor should be chosen to program a switching frequency 20% slower than the SYNC pulse frequency. Synchronization (switch turn-on) occurs a fixed (See Datasheet)", 9 RT "Switching Frequency Pin. Set switching frequency using a resistor to GND (see Typical Performance Characteristics for values). For SYNC function, choose the resistor to program a frequency 20% slower than the SYNC pulse (See Datasheet)", 10 GND (power) "Ground. Pins connected internally. For best performance, connect both pins to board ground.", 11 VIN (power) "Input Supply Pin. This pin must be locally bypassed.", 12 ~{SHDN} (in) "Shutdown Pin. Tie to 1.5V or higher to enable device; 0.4V or less to disable device. Also functions as soft-start. Use RC filter as shown in Figure 1.", 13 VREF (out) "Reference Output Pin. This pin can supply up to 100uA. Do not over drive this pin. Bypass with a 10nF or larger capacitor.", 14 CTRL (in) "Internal Reference Override Pin. The CTRL pin allows the FB voltage to be externally adjusted between 0V and 1V to adjust the output voltage. Tie this pin higher than 1.2V to use the internal reference of 1V.", 15 FB (in) "Feedback Pin. Connect to output resistor divider tap.", 16 MON (out) "Current Monitor Output Pin. Sources a current equal to 20% of the APD current and converts to a reference voltage through an external resistor", 17 EP (power) "Ground. The Exposed Pad must be soldered to the PCB."